# EAGLE library part MC6802 (library micro-motorola)
MICROCONTROLLER/MEMORY DEVICE
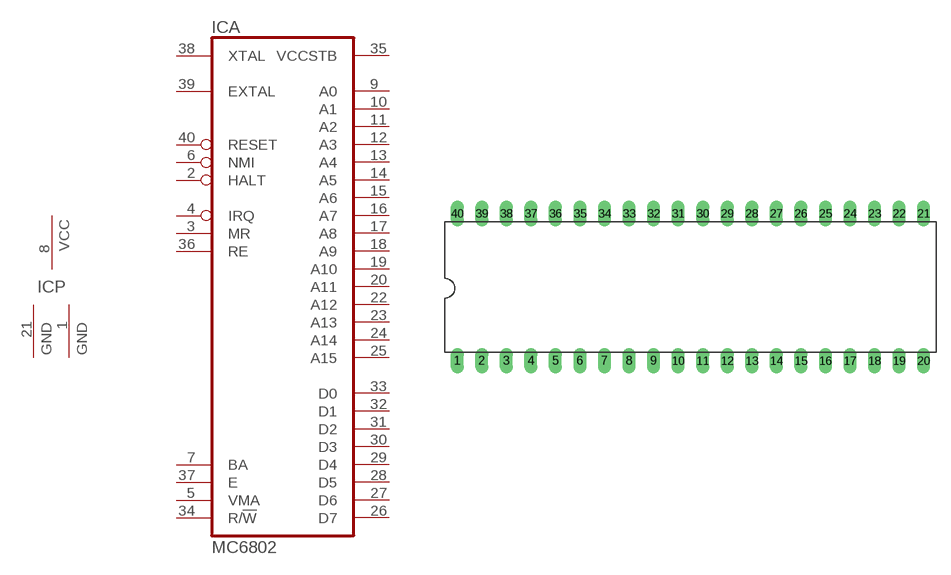
[diagram p4: symbol with the pads of DIL40; footprint DIL40]

Designator prefix IC; gates A=MC6802 P=PWR-GND2

## MC6802 (OC_FARNELL: unknown; OC_NEWARK: unknown)  [DIL40]
1  P:GND  pwr
2  A:HALT  in
3  A:MR  in
4  A:IRQ  in
5  A:VMA  out
6  A:NMI  in
7  A:BA  out
8  P:VCC  pwr
9  A:A0  out
10  A:A1  out
11  A:A2  out
12  A:A3  out
13  A:A4  out
14  A:A5  out
15  A:A6  out
16  A:A7  out
17  A:A8  out
18  A:A9  out
19  A:A10  out
20  A:A11  out
21  P:GND  pwr
22  A:A12  out
23  A:A13  out
24  A:A14  out
25  A:A15  out
26  A:D7
27  A:D6
28  A:D5
29  A:D4
30  A:D3
31  A:D2
32  A:D1
33  A:D0
34  A:R/!W  out
35  A:VCCSTB  in
36  A:RE  in
37  A:E  out
38  A:XTAL  in
39  A:EXTAL  in
40  A:RESET  in

## Footprint DIL40 (pad centres in mm)
Dual In Line Package
drill 0.813 long: 1 -24.13,-7.62; 2 -21.59,-7.62; 3 -19.05,-7.62; 4 -16.51,-7.62; 5 -13.97,-7.62; 6 -11.43,-7.62; 7 -8.89,-7.62; 8 -6.35,-7.62; 9 -3.81,-7.62; 10 -1.27,-7.62; 11 1.27,-7.62; 12 3.81,-7.62; 13 6.35,-7.62; 14 8.89,-7.62; 15 11.43,-7.62; 16 13.97,-7.62; 17 16.51,-7.62; 18 19.05,-7.62; 19 21.59,-7.62; 20 24.13,-7.62; 21 24.13,7.62; 22 21.59,7.62; 23 19.05,7.62; 24 16.51,7.62; 25 13.97,7.62; 26 11.43,7.62; 27 8.89,7.62; 28 6.35,7.62; 29 3.81,7.62; 30 1.27,7.62; 31 -1.27,7.62; 32 -3.81,7.62; 33 -6.35,7.62; 34 -8.89,7.62; 35 -11.43,7.62; 36 -13.97,7.62; 37 -16.51,7.62; 38 -19.05,7.62; 39 -21.59,7.62; 40 -24.13,7.62